# EAGLE library part AT28C010-12TU-T (library Memory)
IC EEPROM 1M PARALLEL 32TSOP Manufacturer's datasheet <http://ww1.microchip.com/downloads/en/DeviceDoc/doc0353I.pdf>
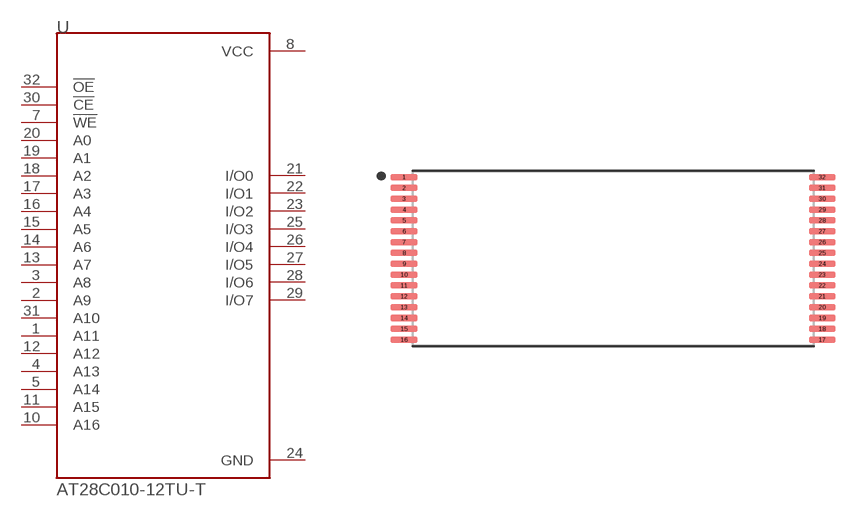
[diagram p15: symbol with the pads of TSOP-32; footprint TSOP-32]

Designator prefix U

## AT28C010-12TU-T (CREATED_BY: PCBLayout.com; DIGIKEY_PART_NUMBER: AT28C010-12TU-TTR-ND; MANUFACTURER: Microchip Technology; MPN: AT28C010-12TU-T; PACKAGE: 32-TSOP)  [TSOP-32]
1  A11  in
2  A9  in
3  A8  in
4  A13  in
5  A14  in
7  !WE  in
8  VCC  pwr
10  A16  in
11  A15  in
12  A12  in
13  A7  in
14  A6  in
15  A5  in
16  A4  in
17  A3  in
18  A2  in
19  A1  in
20  A0  in
21  I/O0
22  I/O1
23  I/O2
24  GND  pwr
25  I/O3
26  I/O4
27  I/O5
28  I/O6
29  I/O7
30  !CE  in
31  A10  in
32  !OE  in

## Footprint TSOP-32 (pad centres in mm)
Small Outline Pkg (SOP), 0.50 mm pitch; 32 pin, 8.00 mm L X 18.40 mm W X 1.20 mm H body PCB Libraries Packages
smd 1.24 x 0.3: 1 -9.64,3.75; 2 -9.64,3.25; 3 -9.64,2.75; 4 -9.64,2.25; 5 -9.64,1.75; 6 -9.64,1.25; 7 -9.64,0.75; 8 -9.64,0.25; 9 -9.64,-0.25; 10 -9.64,-0.75; 11 -9.64,-1.25; 12 -9.64,-1.75; 13 -9.64,-2.25; 14 -9.64,-2.75; 15 -9.64,-3.25; 16 -9.64,-3.75; 17 9.64,-3.75; 18 9.64,-3.25; 19 9.64,-2.75; 20 9.64,-2.25; 21 9.64,-1.75; 22 9.64,-1.25; 23 9.64,-0.75; 24 9.64,-0.25; 25 9.64,0.25; 26 9.64,0.75; 27 9.64,1.25; 28 9.64,1.75; 29 9.64,2.25; 30 9.64,2.75; 31 9.64,3.25; 32 9.64,3.75